# Altium footprint library SAMA5D27-SOM1-MFG-03.PcbLib: 21 footprints (part 1 of 2)
Each footprint in its own frame and in the unit in brackets; x right, y up, seen from the top. Pads: shape width x height; smd on the part's side, far side on the other; paste and mask are expansions set on the pad; w line width, h text height; cw(c..) or ccw(c..) is an arc to the next point about the centre after c.
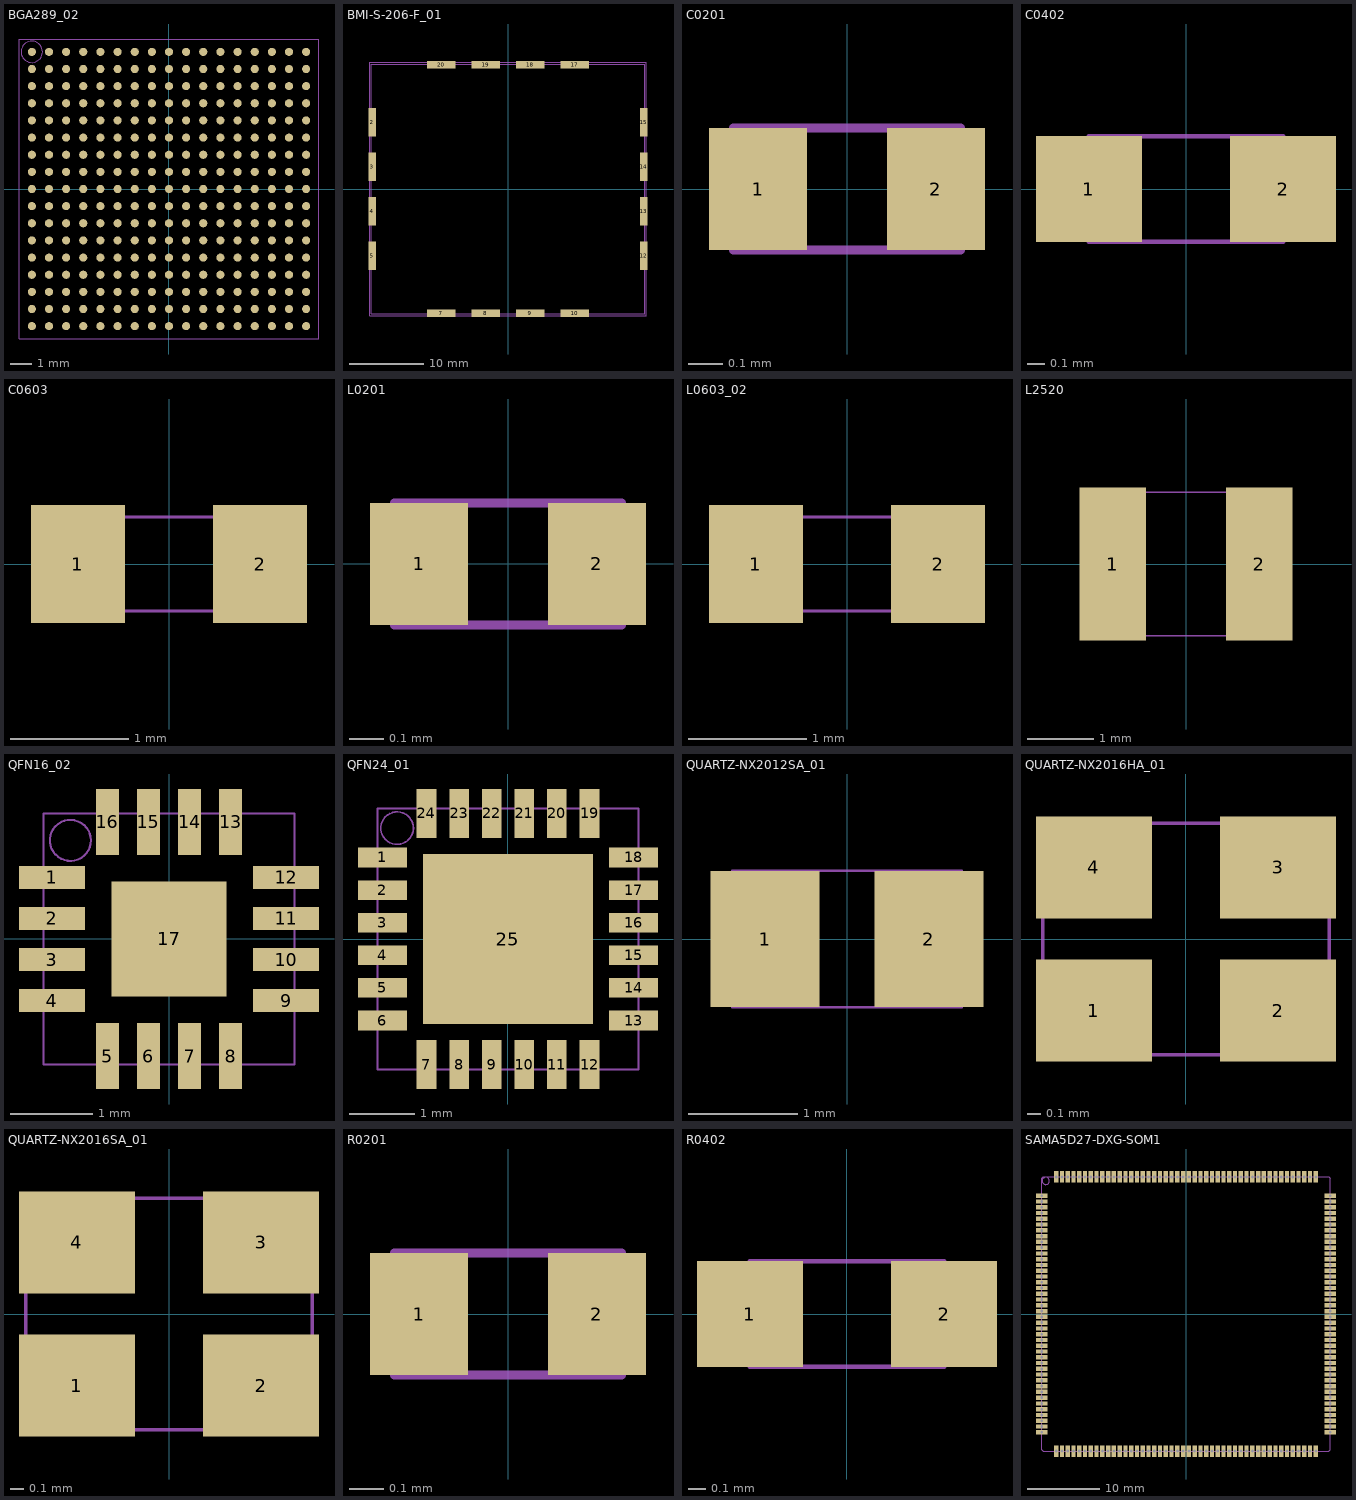
[diagram p0: the footprints below, top view; thin cyan lines are the x and y axes]

## BGA289_02 [mm] "BGA289_02"
pads (289):
  round 0.38 smd: A1(-6.4,6.4) A2(-5.6,6.4) A3(-4.8,6.4) A4(-4,6.4) A5(-3.2,6.4) A6(-2.4,6.4) A7(-1.6,6.4) A8(-0.8,6.4) A9(0,6.4) A10(0.8,6.4) A11(1.6,6.4) A12(2.4,6.4) A13(3.2,6.4) A14(4,6.4) A15(4.8,6.4) A16(5.6,6.4) A17(6.4,6.4) B1(-6.4,5.6) B2(-5.6,5.6) B3(-4.8,5.6) B4(-4,5.6) B5(-3.2,5.6) B6(-2.4,5.6) B7(-1.6,5.6) B8(-0.8,5.6) B9(0,5.6) B10(0.8,5.6) B11(1.6,5.6) B12(2.4,5.6) B13(3.2,5.6) B14(4,5.6) B15(4.8,5.6) B16(5.6,5.6) B17(6.4,5.6) C1(-6.4,4.8) C2(-5.6,4.8) C3(-4.8,4.8) C4(-4,4.8) C5(-3.2,4.8) C6(-2.4,4.8) C7(-1.6,4.8) C8(-0.8,4.8) C9(0,4.8) C10(0.8,4.8) C11(1.6,4.8) C12(2.4,4.8) C13(3.2,4.8) C14(4,4.8) C15(4.8,4.8) C16(5.6,4.8) C17(6.4,4.8) D1(-6.4,4) D2(-5.6,4) D3(-4.8,4) D4(-4,4) D5(-3.2,4) D6(-2.4,4) D7(-1.6,4) D8(-0.8,4) D9(0,4) D10(0.8,4) D11(1.6,4) D12(2.4,4) D13(3.2,4) D14(4,4) D15(4.8,4) D16(5.6,4) D17(6.4,4) E1(-6.4,3.2) E2(-5.6,3.2) E3(-4.8,3.2) E4(-4,3.2) E5(-3.2,3.2) E6(-2.4,3.2) E7(-1.6,3.2) E8(-0.8,3.2) E9(0,3.2) E10(0.8,3.2) E11(1.6,3.2) E12(2.4,3.2) E13(3.2,3.2) E14(4,3.2) E15(4.8,3.2) E16(5.6,3.2) E17(6.4,3.2) F1(-6.4,2.4) F2(-5.6,2.4) F3(-4.8,2.4) F4(-4,2.4) F5(-3.2,2.4) F6(-2.4,2.4) F7(-1.6,2.4) F8(-0.8,2.4) F9(0,2.4) F10(0.8,2.4) F11(1.6,2.4) F12(2.4,2.4) F13(3.2,2.4) F14(4,2.4) F15(4.8,2.4) F16(5.6,2.4) F17(6.4,2.4) G1(-6.4,1.6) G2(-5.6,1.6) G3(-4.8,1.6) G4(-4,1.6) G5(-3.2,1.6) G6(-2.4,1.6) G7(-1.6,1.6) G8(-0.8,1.6) G9(0,1.6) G10(0.8,1.6) G11(1.6,1.6) G12(2.4,1.6) G13(3.2,1.6) G14(4,1.6) G15(4.8,1.6) G16(5.6,1.6) G17(6.4,1.6) H1(-6.4,0.8) H2(-5.6,0.8) H3(-4.8,0.8) H4(-4,0.8) H5(-3.2,0.8) H6(-2.4,0.8) H7(-1.6,0.8) H8(-0.8,0.8) H9(0,0.8) H10(0.8,0.8) H11(1.6,0.8) H12(2.4,0.8) H13(3.2,0.8) H14(4,0.8) H15(4.8,0.8) H16(5.6,0.8) H17(6.4,0.8) J1(-6.4,0) J2(-5.6,0) J3(-4.8,0) J4(-4,0) J5(-3.2,0) J6(-2.4,0) J7(-1.6,0) J8(-0.8,0) J9(0,0) J10(0.8,0) J11(1.6,0) J12(2.4,0) J13(3.2,0) J14(4,0) J15(4.8,0) J16(5.6,0) J17(6.4,0) K1(-6.4,-0.8) K2(-5.6,-0.8) K3(-4.8,-0.8) K4(-4,-0.8) K5(-3.2,-0.8) K6(-2.4,-0.8) K7(-1.6,-0.8) K8(-0.8,-0.8) K9(0,-0.8) K10(0.8,-0.8) K11(1.6,-0.8) K12(2.4,-0.8) K13(3.2,-0.8) K14(4,-0.8) K15(4.8,-0.8) K16(5.6,-0.8) K17(6.4,-0.8) L1(-6.4,-1.6) L2(-5.6,-1.6) L3(-4.8,-1.6) L4(-4,-1.6) L5(-3.2,-1.6) L6(-2.4,-1.6) L7(-1.6,-1.6) L8(-0.8,-1.6) L9(0,-1.6) L10(0.8,-1.6) L11(1.6,-1.6) L12(2.4,-1.6) L13(3.2,-1.6) L14(4,-1.6) L15(4.8,-1.6) L16(5.6,-1.6) L17(6.4,-1.6) M1(-6.4,-2.4) M2(-5.6,-2.4) M3(-4.8,-2.4) M4(-4,-2.4) M5(-3.2,-2.4) M6(-2.4,-2.4) M7(-1.6,-2.4) M8(-0.8,-2.4) M9(0,-2.4) M10(0.8,-2.4) M11(1.6,-2.4) M12(2.4,-2.4) M13(3.2,-2.4) M14(4,-2.4) M15(4.8,-2.4) M16(5.6,-2.4) M17(6.4,-2.4) N1(-6.4,-3.2) N2(-5.6,-3.2) N3(-4.8,-3.2) N4(-4,-3.2) N5(-3.2,-3.2) N6(-2.4,-3.2) N7(-1.6,-3.2) N8(-0.8,-3.2) N9(0,-3.2) N10(0.8,-3.2) N11(1.6,-3.2) N12(2.4,-3.2) N13(3.2,-3.2) N14(4,-3.2) N15(4.8,-3.2) N16(5.6,-3.2) N17(6.4,-3.2) P1(-6.4,-4) P2(-5.6,-4) P3(-4.8,-4) P4(-4,-4) P5(-3.2,-4) P6(-2.4,-4) P7(-1.6,-4) P8(-0.8,-4) P9(0,-4) P10(0.8,-4) P11(1.6,-4) P12(2.4,-4) P13(3.2,-4) P14(4,-4) P15(4.8,-4) P16(5.6,-4) P17(6.4,-4) R1(-6.4,-4.8) R2(-5.6,-4.8) R3(-4.8,-4.8) R4(-4,-4.8) R5(-3.2,-4.8) R6(-2.4,-4.8) R7(-1.6,-4.8) R8(-0.8,-4.8) R9(0,-4.8) R10(0.8,-4.8) R11(1.6,-4.8) R12(2.4,-4.8) R13(3.2,-4.8) R14(4,-4.8) R15(4.8,-4.8) R16(5.6,-4.8) R17(6.4,-4.8) T1(-6.4,-5.6) T2(-5.6,-5.6) T3(-4.8,-5.6) T4(-4,-5.6) T5(-3.2,-5.6) T6(-2.4,-5.6) T7(-1.6,-5.6) T8(-0.8,-5.6) T9(0,-5.6) T10(0.8,-5.6) T11(1.6,-5.6) T12(2.4,-5.6) T13(3.2,-5.6) T14(4,-5.6) T15(4.8,-5.6) T16(5.6,-5.6) T17(6.4,-5.6) U1(-6.4,-6.4) U2(-5.6,-6.4) U3(-4.8,-6.4) U4(-4,-6.4) U5(-3.2,-6.4) U6(-2.4,-6.4) U7(-1.6,-6.4) U8(-0.8,-6.4) U9(0,-6.4) U10(0.8,-6.4) U11(1.6,-6.4) U12(2.4,-6.4) U13(3.2,-6.4) U14(4,-6.4) U15(4.8,-6.4) U16(5.6,-6.4) U17(6.4,-6.4)
Mechanical 16:
  circle w0.025: c-6.4,6.4 r0.5
  lines w0.025: -7,-7 -7,7 7,7 7,-7 -7,-7
Mechanical 29:
  text "A12" at -0.394,6.4 h0.64
  text "C10" at -1.994,4.8 h0.64
  text "C11" at -1.194,4.8 h0.64
  text "C12" at -0.394,4.8 h0.64
  text "C13" at 0.406,4.8 h0.64
  text "C14" at 1.206,4.8 h0.64
  text "C15" at 2.006,4.8 h0.64
  text "D10" at -1.994,4 h0.64
  text "D11" at -1.194,4 h0.64
  text "D12" at -0.394,4 h0.64
  text "D13" at 0.406,4 h0.64
  text "A13" at 0.406,6.4 h0.64
  text "D14" at 1.206,4 h0.64
  text "E13" at 0.406,3.2 h0.64
  text "F9" at -2.286,2.4 h0.64
  text "F10" at -1.994,2.4 h0.64
  text "F13" at 0.406,2.4 h0.64
  text "F14" at 1.206,2.4 h0.64
  text "G11" at -1.194,1.6 h0.64
  text "G13" at 0.406,1.6 h0.64
  text "G14" at 1.206,1.6 h0.64
  text "H11" at -1.194,0.8 h0.64
  text "A14" at 1.206,6.4 h0.64
  text "H13" at 0.406,0.8 h0.64
  text "H14" at 1.206,0.8 h0.64
  text "J12" at -0.394,0 h0.64
  text "J13" at 0.406,0 h0.64
  text "J14" at 1.206,0 h0.64
  text "K12" at -0.394,-0.8 h0.64
  text "K13" at 0.406,-0.8 h0.64
  text "K14" at 1.206,-0.8 h0.64
  text "L13" at 0.406,-1.6 h0.64
  text "R12" at -0.394,-4.8 h0.64
  text "A15" at 2.006,6.4 h0.64
  text "T9" at -2.286,-5.6 h0.64
  text "B11" at -1.194,5.6 h0.64
  text "B12" at -0.394,5.6 h0.64
  text "B13" at 0.406,5.6 h0.64
  text "B14" at 1.206,5.6 h0.64
  text "B15" at 2.006,5.6 h0.64
  text "R3" at -7.086,-4.8 h0.64
  text "R9" at -2.286,-4.8 h0.64
  text "P8" at -3.086,-4 h0.64
  text "R10" at -1.994,-4.8 h0.64
  text "P15" at 2.006,-4 h0.64
  text "N17" at 3.606,-3.2 h0.64
  text "P16" at 2.806,-4 h0.64
  text "C9" at -2.286,4.8 h0.64
  text "A7" at -3.886,6.4 h0.64
  text "B6" at -4.686,5.6 h0.64
  text "C5" at -5.486,4.8 h0.64
  text "M4" at -6.286,-2.4 h0.64
  text "A6" at -4.686,6.4 h0.64
  text "E4" at -6.286,3.2 h0.64
  text "B5" at -5.486,5.6 h0.64
  text "C4" at -6.286,4.8 h0.64
  text "A5" at -5.486,6.4 h0.64
  text "B4" at -6.286,5.6 h0.64
  text "A4" at -6.286,6.4 h0.64
  text "D3" at -7.086,4 h0.64
  text "C3" at -7.086,4.8 h0.64
  text "B3" at -7.086,5.6 h0.64
  text "E2" at -7.886,3.2 h0.64
  text "R7" at -3.886,-4.8 h0.64
  text "A3" at -7.086,6.4 h0.64
  text "G3" at -7.086,1.6 h0.64
  text "R5" at -5.486,-4.8 h0.64
  text "F4" at -6.286,2.4 h0.64
  text "K4" at -6.286,-0.8 h0.64
  text "J5" at -5.486,0 h0.64
  text "L9" at -2.286,-1.6 h0.64
  text "D2" at -7.886,4 h0.64
  text "M7" at -3.886,-2.4 h0.64
  text "G8" at -3.086,1.6 h0.64
  text "C2" at -7.886,4.8 h0.64
  text "M16" at 2.806,-2.4 h0.64
  text "L11" at -1.194,-1.6 h0.64
  text "M15" at 2.006,-2.4 h0.64
  text "N9" at -2.286,-3.2 h0.64
  text "M10" at -1.994,-2.4 h0.64
  text "N15" at 2.006,-3.2 h0.64
  text "G7" at -3.886,1.6 h0.64
  text "N10" at -1.994,-3.2 h0.64
  text "U9" at -2.286,-6.4 h0.64
  text "U2" at -7.886,-6.4 h0.64
  text "U1" at -8.686,-6.4 h0.64
  text "U6" at -4.686,-6.4 h0.64
  text "U7" at -3.886,-6.4 h0.64
  text "T7" at -3.886,-5.6 h0.64
  text "R2" at -7.886,-4.8 h0.64
  text "T2" at -7.886,-5.6 h0.64
  text "B16" at 2.806,5.6 h0.64
  text "C16" at 2.806,4.8 h0.64
  text "A16" at 2.806,6.4 h0.64
  text "E11" at -1.194,3.2 h0.64
  text "G12" at -0.394,1.6 h0.64
  text "H10" at -1.994,0.8 h0.64
  text "E8" at -3.086,3.2 h0.64
  text "E16" at 2.806,3.2 h0.64
  text "D16" at 2.806,4 h0.64
  text "G17" at 3.606,1.6 h0.64
  text "E15" at 2.006,3.2 h0.64
  text "F15" at 2.006,2.4 h0.64
  text "H15" at 2.006,0.8 h0.64
  text "G15" at 2.006,1.6 h0.64
  text "L16" at 2.806,-1.6 h0.64
  text "K15" at 2.006,-0.8 h0.64
  text "L15" at 2.006,-1.6 h0.64
  text "L14" at 1.206,-1.6 h0.64
  text "J17" at 3.606,0 h0.64
  text "J15" at 2.006,0 h0.64
  text "L10" at -1.994,-1.6 h0.64
  text "J8" at -3.086,0 h0.64
  text "R4" at -6.286,-4.8 h0.64
  text "T6" at -4.686,-5.6 h0.64
  text "U8" at -3.086,-6.4 h0.64
  text "A10" at -1.994,6.4 h0.64
  text "F11" at -1.194,2.4 h0.64
  text "J10" at -1.994,0 h0.64
  text "J4" at -6.286,0 h0.64
  text "A8" at -3.086,6.4 h0.64
  text "C6" at -4.686,4.8 h0.64
  text "E5" at -5.486,3.2 h0.64
  text "D5" at -5.486,4 h0.64
  text "N11" at -1.194,-3.2 h0.64
  text "L1" at -8.686,-1.6 h0.64
  text "K8" at -3.086,-0.8 h0.64
  text "J3" at -7.086,0 h0.64
  text "K5" at -5.486,-0.8 h0.64
  text "N1" at -8.686,-3.2 h0.64
  text "K9" at -2.286,-0.8 h0.64
  text "K2" at -7.886,-0.8 h0.64
  text "K1" at -8.686,-0.8 h0.64
  text "J7" at -3.886,0 h0.64
  text "M8" at -3.086,-2.4 h0.64
  text "H16" at 2.806,0.8 h0.64
  text "G16" at 2.806,1.6 h0.64
  text "F16" at 2.806,2.4 h0.64
  text "E17" at 3.606,3.2 h0.64
  text "F17" at 3.606,2.4 h0.64
  text "E14" at 1.206,3.2 h0.64
  text "D15" at 2.006,4 h0.64
  text "C17" at 3.606,4.8 h0.64
  text "B17" at 3.606,5.6 h0.64
  text "A17" at 3.606,6.4 h0.64
  text "H12" at -0.394,0.8 h0.64
  text "G10" at -1.994,1.6 h0.64
  text "F8" at -3.086,2.4 h0.64
  text "E10" at -1.994,3.2 h0.64
  text "F12" at -0.394,2.4 h0.64
  text "E12" at -0.394,3.2 h0.64
  text "H5" at -5.486,0.8 h0.64
  text "F2" at -7.886,2.4 h0.64
  text "E3" at -7.086,3.2 h0.64
  text "D6" at -4.686,4 h0.64
  text "M14" at 1.206,-2.4 h0.64
  text "K17" at 3.606,-0.8 h0.64
  text "K16" at 2.806,-0.8 h0.64
  text "J16" at 2.806,0 h0.64
  text "L17" at 3.606,-1.6 h0.64
  text "H17" at 3.606,0.8 h0.64
  text "R8" at -3.086,-4.8 h0.64
  text "P11" at -1.194,-4 h0.64
  text "M12" at -0.394,-2.4 h0.64
  text "K10" at -1.994,-0.8 h0.64
  text "J9" at -2.286,0 h0.64
  text "K11" at -1.194,-0.8 h0.64
  text "K7" at -3.886,-0.8 h0.64
  text "J11" at -1.194,0 h0.64
  text "J6" at -4.686,0 h0.64
  text "K6" at -4.686,-0.8 h0.64
  text "P5" at -5.486,-4 h0.64
  text "M1" at -8.686,-2.4 h0.64
  text "R6" at -4.686,-4.8 h0.64
  text "T5" at -5.486,-5.6 h0.64
  text "T4" at -6.286,-5.6 h0.64
  text "T3" at -7.086,-5.6 h0.64
  text "U4" at -6.286,-6.4 h0.64
  text "E1" at -8.686,3.2 h0.64
  text "G1" at -8.686,1.6 h0.64
  text "B2" at -7.886,5.6 h0.64
  text "H9" at -2.286,0.8 h0.64
  text "H8" at -3.086,0.8 h0.64
  text "H4" at -6.286,0.8 h0.64
  text "A2" at -7.886,6.4 h0.64
  text "G4" at -6.286,1.6 h0.64
  text "F1" at -8.686,2.4 h0.64
  text "G5" at -5.486,1.6 h0.64
  text "A9" at -2.286,6.4 h0.64
  text "B1" at -8.686,5.6 h0.64
  text "A1" at -8.686,6.4 h0.64
  text "G2" at -7.886,1.6 h0.64
  text "G6" at -4.686,1.6 h0.64
  text "N14" at 1.206,-3.2 h0.64
  text "C1" at -8.686,4.8 h0.64
  text "A11" at -1.194,6.4 h0.64
  text "G9" at -2.286,1.6 h0.64
  text "D1" at -8.686,4 h0.64
  text "E7" at -3.886,3.2 h0.64
  text "N2" at -7.886,-3.2 h0.64
  text "B8" at -3.086,5.6 h0.64
  text "R17" at 3.606,-4.8 h0.64
  text "H6" at -4.686,0.8 h0.64
  text "P17" at 3.606,-4 h0.64
  text "J2" at -7.886,0 h0.64
  text "H3" at -7.086,0.8 h0.64
  text "E6" at -4.686,3.2 h0.64
  text "K3" at -7.086,-0.8 h0.64
  text "C8" at -3.086,4.8 h0.64
  text "T14" at 1.206,-5.6 h0.64
  text "L5" at -5.486,-1.6 h0.64
  text "L4" at -6.286,-1.6 h0.64
  text "P14" at 1.206,-4 h0.64
  text "T1" at -8.686,-5.6 h0.64
  text "R16" at 2.806,-4.8 h0.64
  text "D8" at -3.086,4 h0.64
  text "J1" at -8.686,0 h0.64
  text "F6" at -4.686,2.4 h0.64
  text "H1" at -8.686,0.8 h0.64
  text "C7" at -3.886,4.8 h0.64
  text "H7" at -3.886,0.8 h0.64
  text "P13" at 0.406,-4 h0.64
  text "B10" at -1.994,5.6 h0.64
  text "P10" at -1.994,-4 h0.64
  text "F5" at -5.486,2.4 h0.64
  text "T17" at 3.606,-5.6 h0.64
  text "P3" at -7.086,-4 h0.64
  text "B9" at -2.286,5.6 h0.64
  text "U5" at -5.486,-6.4 h0.64
  text "F7" at -3.886,2.4 h0.64
  text "T15" at 2.006,-5.6 h0.64
  text "T16" at 2.806,-5.6 h0.64
  text "L6" at -4.686,-1.6 h0.64
  text "R13" at 0.406,-4.8 h0.64
  text "R14" at 1.206,-4.8 h0.64
  text "P1" at -8.686,-4 h0.64
  text "N16" at 2.806,-3.2 h0.64
  text "R15" at 2.006,-4.8 h0.64
  text "B7" at -3.886,5.6 h0.64
  text "P9" at -2.286,-4 h0.64
  text "M11" at -1.194,-2.4 h0.64
  text "M13" at 0.406,-2.4 h0.64
  text "L12" at -0.394,-1.6 h0.64
  text "E9" at -2.286,3.2 h0.64
  text "D7" at -3.886,4 h0.64
  text "H2" at -7.886,0.8 h0.64
  text "U3" at -7.086,-6.4 h0.64
  text "P7" at -3.886,-4 h0.64
  text "T10" at -1.994,-5.6 h0.64
  text "N13" at 0.406,-3.2 h0.64
  text "F3" at -7.086,2.4 h0.64
  text "D4" at -6.286,4 h0.64
  text "U10" at -1.994,-6.4 h0.64
  text "N12" at -0.394,-3.2 h0.64
  text "P12" at -0.394,-4 h0.64
  text "D9" at -2.286,4 h0.64
  text "T8" at -3.086,-5.6 h0.64
  text "M17" at 3.606,-2.4 h0.64
  text "L7" at -3.886,-1.6 h0.64
  text "L3" at -7.086,-1.6 h0.64
  text "M2" at -7.886,-2.4 h0.64
  text "M9" at -2.286,-2.4 h0.64
  text "L2" at -7.886,-1.6 h0.64
  text "L8" at -3.086,-1.6 h0.64
  text "R1" at -8.686,-4.8 h0.64
  text "M3" at -7.086,-2.4 h0.64
  text "P4" at -6.286,-4 h0.64
  text "N4" at -6.286,-3.2 h0.64
  text "M5" at -5.486,-2.4 h0.64
  text "N5" at -5.486,-3.2 h0.64
  text "N3" at -7.086,-3.2 h0.64
  text "N6" at -4.686,-3.2 h0.64
  text "P2" at -7.886,-4 h0.64
  text "D17" at 3.606,4 h0.64
  text "N8" at -3.086,-3.2 h0.64
  text "P6" at -4.686,-4 h0.64
  text "U11" at -1.194,-6.4 h0.64
  text "M6" at -4.686,-2.4 h0.64
  text "T11" at -1.194,-5.6 h0.64
  text "U14" at 1.206,-6.4 h0.64
  text "T13" at 0.406,-5.6 h0.64
  text "U15" at 2.006,-6.4 h0.64
  text "U16" at 2.806,-6.4 h0.64
  text "T12" at -0.394,-5.6 h0.64
  text "U12" at -0.394,-6.4 h0.64
  text "N7" at -3.886,-3.2 h0.64
  text "U13" at 0.406,-6.4 h0.64
  text "U17" at 3.606,-6.4 h0.64
  text "R11" at -1.194,-4.8 h0.64
Mechanical 30:
  text "1" at -6.55,7.1 h0.5
  text "A" at -7.5,6.2 h0.5

## BMI-S-206-F_01 [mm] "BMI-S-206-F_01"
pads (20):
  oct 0.025x0.025 smd: 1(-18.315,16.74) 6(-18.315,-16.74) 11(18.315,-16.74) 16(18.315,16.74)
  rect 1x3.8 smd: 2(-18.315,9) 3(-18.315,3) 4(-18.315,-3) 5(-18.315,-9) 12(18.315,-9) 13(18.315,-3) 14(18.315,3) 15(18.315,9)
  rect 3.8x1 smd: 7(-8.995,-16.74) 8(-2.995,-16.74) 9(3.005,-16.74) 10(9.005,-16.74) 17(9.005,16.74) 18(3.005,16.74) 19(-2.995,16.74) 20(-8.995,16.74)
Mechanical 16:
  lines w0.025: -18.645,-17.07 18.645,-17.07 18.645,17.07 -18.645,17.07 -18.645,-17.07 ; -18.415,-16.84 18.415,-16.84 18.415,16.84 -18.415,16.84 -18.415,-16.84
Mechanical 29:
  text "6" at -20.54,-15.193 h0.64
  text "7" at -9.47,-18.507 h0.64
  text "8" at -3.32,-18.307 h0.64
  text "9" at 2.53,-18.307 h0.64
  text "10" at 7.922,-18.257 h0.64
  text "11" at 15.529,-18.098 h0.64
  text "5" at -20.59,-9.033 h0.64
  text "12" at 18.817,-9.067 h0.64
  text "4" at -20.59,-3.033 h0.64
  text "13" at 18.817,-3.067 h0.64
  text "3" at -20.59,2.967 h0.64
  text "14" at 18.817,2.933 h0.64
  text "2" at -20.59,8.967 h0.64
  text "15" at 18.817,8.933 h0.64
  text "1" at -20.141,15.087 h0.64
  text "16" at 18.711,15.913 h0.64
  text "20" at -9.228,17.522 h0.64
  text "19" at -3.078,17.722 h0.64
  text "18" at 2.772,17.722 h0.64
  text "17" at 8.672,17.772 h0.64

## C0201 [mm] "C0201"
pads (2):
  rect 0.28x0.35 smd: 1(-0.255,0) 2(0.255,0)
Mechanical 16:
  lines w0.025: -0.325,-0.175 -0.325,0.175 0.325,0.175 0.325,-0.175 -0.325,-0.175
Mechanical 29:
  text "2" at 0.55,-1.1 h0.64
  text "1" at -0.6,-0.592 h0.64

## C0402 [mm] "C0402"
pads (2):
  rect 0.6x0.6 smd: 1(-0.55,0) 2(0.55,0)
Mechanical 16:
  lines w0.025: -0.55,-0.3 -0.55,0.3 0.55,0.3 0.55,-0.3 -0.55,-0.3
Mechanical 29:
  text "2" at 0.4,-1.2 h0.64
  text "1" at 0.108,-1.2 h0.64

## C0603 [mm] "C0603"
pads (2):
  rect 0.8x1 smd: 1(-0.775,0) 2(0.775,0)
Mechanical 16:
  lines w0.025: -1.05,-0.4 -1.05,0.4 1.05,0.4 1.05,-0.4 -1.05,-0.4
Mechanical 29:
  text "2" at 1.526,-0.127 h0.64
  text "1" at -1.145,-0.127 h0.64

## L0201 [mm] "L0201"
pads (2):
  rect 0.28x0.35 smd: 1(-0.255,0) 2(0.255,0)
Mechanical 16:
  lines w0.025: -0.325,-0.175 0.325,-0.175 0.325,0.175 -0.325,0.175 -0.325,-0.175
Mechanical 29:
  text "2" at 0.55,-1.1 h0.64
  text "1" at -1.108,-1.1 h0.64

## L0603_02 [mm] "L0603_02"
pads (2):
  rect 0.8x1 smd: 1(-0.775,0) 2(0.775,0)
Mechanical 16:
  lines w0.025: -1.05,-0.4 -1.05,0.4 1.05,0.4 1.05,-0.4 -1.05,-0.4
Mechanical 29:
  text "2" at 1.526,-0.127 h0.64
  text "1" at -1.145,-0.127 h0.64

## L2520 [mm] "L2520"
pads (2):
  rect 1x2.3 smd: 1(-1.1,0) 2(1.1,0)
Mechanical 16:
  lines w0.025: -1.325,-1.075 1.325,-1.075 1.325,1.075 -1.325,1.075 -1.325,-1.075
Mechanical 29:
  text "1" at -0.936,-3.721 h0.5
  text "2" at 1.253,-3.721 h0.5

## QFN16_02 [mm] "QFN16_02"
pads (17):
  rect 0.8x0.28 smd: 1(-1.425,0.75) 2(-1.425,0.25) 3(-1.425,-0.25) 4(-1.425,-0.75) 9(1.425,-0.75) 10(1.425,-0.25) 11(1.425,0.25) 12(1.425,0.75)
  rect 0.28x0.8 smd: 5(-0.75,-1.425) 6(-0.25,-1.425) 7(0.25,-1.425) 8(0.75,-1.425) 13(0.75,1.425) 14(0.25,1.425) 15(-0.25,1.425) 16(-0.75,1.425)
  rect 1.4x1.4 smd: 17(0,0)
Mechanical 16:
  circle w0.025: c-1.2,1.2 r0.25
  lines w0.025: -1.525,-1.525 -1.525,1.525 1.525,1.525 1.525,-1.525 -1.525,-1.525
Mechanical 29:
  text "10" at 4.224,-0.467 h0.64
  text "9" at 3.436,-1.268 h0.64
  text "6" at 0.411,-2.743 h0.64
  text "7" at 0.911,-2.743 h0.64
  text "4" at -2.434,-1.103 h0.64
  text "3" at -2.384,-0.453 h0.64
  text "17" at 1.449,-0.367 h0.64
  text "1" at -2.334,0.547 h0.64
  text "14" at 0.998,2.392 h0.64
  text "2" at -2.334,0.097 h0.64
  text "13" at 1.749,2.392 h0.64
  text "11" at 4.224,0.332 h0.64
  text "12" at 4.224,1.082 h0.64
  text "5" at -0.139,-2.743 h0.64
  text "8" at 1.461,-2.743 h0.64
  text "16" at -0.651,2.392 h0.64
  text "15" at 0.149,2.392 h0.64

## QFN24_01 [mm] "QFN24_01"
pads (25):
  rect 0.75x0.3 smd: 1(-1.925,1.25) 2(-1.925,0.75) 3(-1.925,0.25) 4(-1.925,-0.25) 5(-1.925,-0.75) 6(-1.925,-1.25) 13(1.925,-1.25) 14(1.925,-0.75) 15(1.925,-0.25) 16(1.925,0.25) 17(1.925,0.75) 18(1.925,1.25)
  rect 0.3x0.75 smd: 7(-1.25,-1.925) 8(-0.75,-1.925) 9(-0.25,-1.925) 10(0.25,-1.925) 11(0.75,-1.925) 12(1.25,-1.925) 19(1.25,1.925) 20(0.75,1.925) 21(0.25,1.925) 22(-0.25,1.925) 23(-0.75,1.925) 24(-1.25,1.925)
  rect 2.6x2.6 smd: 25(0,0)
Mechanical 16:
  circle w0.025: c-1.7,1.7 r0.25
  lines w0.025: -2,-2 2,-2 2,2 -2,2 -2,-2
Mechanical 29:
  text "23" at -1.766,1.925 h0.64
  text "24" at -2.266,1.925 h0.64
  text "7" at -1.758,-1.925 h0.64
  text "8" at -1.258,-1.925 h0.64
  text "9" at -0.758,-1.925 h0.64
  text "1" at -2.179,1.123 h0.64
  text "25" at -0.516,-0.25 h0.64
  text "22" at -1.266,1.925 h0.64
  text "18" at 0.655,1.631 h0.64
  text "10" at -0.766,-1.925 h0.64
  text "11" at -0.266,-1.925 h0.64
  text "15" at 0.655,0.131 h0.64
  text "17" at 0.655,1.131 h0.64
  text "13" at 0.655,-1.123 h0.64
  text "12" at 0.234,-1.925 h0.64
  text "19" at 0.234,1.925 h0.64
  text "20" at -0.266,1.925 h0.64
  text "21" at -0.766,1.925 h0.64
  text "2" at -2.179,0.369 h0.64
  text "16" at 0.655,0.631 h0.64
  text "14" at 0.655,-0.369 h0.64
  text "3" at -2.179,-0.131 h0.64
  text "4" at -2.179,-0.631 h0.64
  text "5" at -2.179,-1.131 h0.64
  text "6" at -2.179,-1.631 h0.64

## QUARTZ-NX2012SA_01 [mm] "QUARTZ-NX2012SA_01"
pads (2):
  rect 1x1.25 smd: 1(-0.75,0) 2(0.75,0)
Mechanical 16:
  lines w0.025: -1.05,-0.625 -1.05,0.625 1.05,0.625 1.05,-0.625 -1.05,-0.625
Mechanical 29:
  text "1" at -0.75,0.24 h0.6
  text "2" at 0.75,0.24 h0.6

## QUARTZ-NX2016HA_01 [mm] "QUARTZ-NX2016HA_01"
pads (4):
  rect 0.85x0.75 smd: 1(-0.675,-0.525) 2(0.675,-0.525) 3(0.675,0.525) 4(-0.675,0.525)
Mechanical 16:
  circle w0.025: c-0.75,-0.55 r0.25
  lines w0.025: -1.05,-0.85 -1.05,0.85 1.05,0.85 1.05,-0.85 -1.05,-0.85
Mechanical 29:
  text "2" at 2.311,-0.868 h0.64
  text "4" at -0.889,0.182 h0.64
  text "1" at -0.839,-0.918 h0.64
  text "3" at 2.311,0.232 h0.64

## QUARTZ-NX2016SA_01 [mm] "QUARTZ-NX2016SA_01"
pads (4):
  rect 0.85x0.75 smd: 1(-0.675,-0.525) 2(0.675,-0.525) 3(0.675,0.525) 4(-0.675,0.525)
Mechanical 16:
  circle w0.025: c-0.75,-0.55 r0.25
  lines w0.025: -1.05,-0.85 -1.05,0.85 1.05,0.85 1.05,-0.85 -1.05,-0.85
Mechanical 29:
  text "1" at -0.839,-0.917 h0.64
  text "3" at 2.311,0.233 h0.64
  text "2" at 2.311,-0.867 h0.64
  text "4" at -0.889,0.182 h0.64

## R0201 [mm] "R0201"
pads (2):
  rect 0.28x0.35 smd: 1(-0.255,0) 2(0.255,0)
Mechanical 16:
  lines w0.025: -0.325,-0.175 -0.325,0.175 0.325,0.175 0.325,-0.175 -0.325,-0.175
Mechanical 29:
  text "2" at 0.55,-1.1 h0.64
  text "1" at -0.6,-1.608 h0.64

## R0402 [mm] "R0402"
pads (2):
  rect 0.6x0.6 smd: 1(-0.55,0) 2(0.55,0)
Mechanical 16:
  lines w0.025: -0.55,-0.3 -0.55,0.3 0.55,0.3 0.55,-0.3 -0.55,-0.3
Mechanical 29:
  text "1" at -0.285,-1.016 h0.64
  text "2" at 0.412,-1.524 h0.64

## SAMA5D27-DXG-SOM1 [mm] "SAMA5D27-DXG-SOM1"
pads (176):
  rect 1.6x0.6 hole 0.4: 1(-20,16.4) 2(-20,15.6) 3(-20,14.8) 4(-20,14) 5(-20,13.2) 6(-20,12.4) 7(-20,11.6) 8(-20,10.8) 9(-20,10) 10(-20,9.2) 11(-20,8.4) 12(-20,7.6) 13(-20,6.8) 14(-20,6) 15(-20,5.2) 16(-20,4.4) 17(-20,3.6) 18(-20,2.8) 19(-20,2) 20(-20,1.2) 21(-20,0.4) 22(-20,-0.4) 23(-20,-1.2) 24(-20,-2) 25(-20,-2.8) 26(-20,-3.6) 27(-20,-4.4) 28(-20,-5.2) 29(-20,-6) 30(-20,-6.8) 31(-20,-7.6) 32(-20,-8.4) 33(-20,-9.2) 34(-20,-10) 35(-20,-10.8) 36(-20,-11.6) 37(-20,-12.4) 38(-20,-13.2) 39(-20,-14) 40(-20,-14.8) 41(-20,-15.6) 42(-20,-16.4) 89(20,-16.4) 90(20,-15.6) 91(20,-14.8) 92(20,-14) 93(20,-13.2) 94(20,-12.4) 95(20,-11.6) 96(20,-10.8) 97(20,-10) 98(20,-9.2) 99(20,-8.4) 100(20,-7.6) 101(20,-6.8) 102(20,-6) 103(20,-5.2) 104(20,-4.4) 105(20,-3.6) 106(20,-2.8) 107(20,-2) 108(20,-1.2) 109(20,-0.4) 110(20,0.4) 111(20,1.2) 112(20,2) 113(20,2.8) 114(20,3.6) 115(20,4.4) 116(20,5.2) 117(20,6) 118(20,6.8) 119(20,7.6) 120(20,8.4) 121(20,9.2) 122(20,10) 123(20,10.8) 124(20,11.6) 125(20,12.4) 126(20,13.2) 127(20,14) 128(20,14.8) 129(20,15.6) 130(20,16.4)
  rect 0.6x1.6 hole 0.4: 43(-18,-19) 44(-17.2,-19) 45(-16.4,-19) 46(-15.6,-19) 47(-14.8,-19) 48(-14,-19) 49(-13.2,-19) 50(-12.4,-19) 51(-11.6,-19) 52(-10.8,-19) 53(-10,-19) 54(-9.2,-19) 55(-8.4,-19) 56(-7.6,-19) 57(-6.8,-19) 58(-6,-19) 59(-5.2,-19) 60(-4.4,-19) 61(-3.6,-19) 62(-2.8,-19) 63(-2,-19) 64(-1.2,-19) 65(-0.4,-19) 66(0.4,-19) 67(1.2,-19) 68(2,-19) 69(2.8,-19) 70(3.6,-19) 71(4.4,-19) 72(5.2,-19) 73(6,-19) 74(6.8,-19) 75(7.6,-19) 76(8.4,-19) 77(9.2,-19) 78(10,-19) 79(10.8,-19) 80(11.6,-19) 81(12.4,-19) 82(13.2,-19) 83(14,-19) 84(14.8,-19) 85(15.6,-19) 86(16.4,-19) 87(17.2,-19) 88(18,-19) 131(18,19) 132(17.2,19) 133(16.4,19) 134(15.6,19) 135(14.8,19) 136(14,19) 137(13.2,19) 138(12.4,19) 139(11.6,19) 140(10.8,19) 141(10,19) 142(9.2,19) 143(8.4,19) 144(7.6,19) 145(6.8,19) 146(6,19) 147(5.2,19) 148(4.4,19) 149(3.6,19) 150(2.8,19) 151(2,19) 152(1.2,19) 153(0.4,19) 154(-0.4,19) 155(-1.2,19) 156(-2,19) 157(-2.8,19) 158(-3.6,19) 159(-4.4,19) 160(-5.2,19) 161(-6,19) 162(-6.8,19) 163(-7.6,19) 164(-8.4,19) 165(-9.2,19) 166(-10,19) 167(-10.8,19) 168(-11.6,19) 169(-12.4,19) 170(-13.2,19) 171(-14,19) 172(-14.8,19) 173(-15.6,19) 174(-16.4,19) 175(-17.2,19) 176(-18,19)
Mechanical 16:
  circle w0.025: c-19.45,18.45 r0.5
  lines w0.025: -20,-18.8 -20,18.8 -19.8,19 19.8,19 20,18.8 20,-18.8 19.8,-19 -19.8,-19 -20,-18.8
Mechanical 29:
  text "78" at 8.984,-20.27 h0.64
  text "77" at 8.184,-20.27 h0.64
  text "82" at 12.184,-20.27 h0.64
  text "87" at 16.184,-20.27 h0.64
  text "92" at 17.714,-14 h0.64
  text "91" at 17.714,-14.8 h0.64
  text "113" at 17.206,2.8 h0.64
  text "148" at 2.876,17.73 h0.64
  text "151" at 0.476,17.73 h0.64
  text "155" at -2.724,17.73 h0.64
  text "150" at 1.276,17.73 h0.64
  text "162" at -8.324,17.73 h0.64
  text "154" at -1.924,17.73 h0.64
  text "157" at -4.324,17.73 h0.64
  text "152" at -0.324,17.73 h0.64
  text "158" at -5.124,17.73 h0.64
  text "156" at -3.524,17.73 h0.64
  text "164" at -9.924,17.73 h0.64
  text "161" at -7.524,17.73 h0.64
  text "160" at -6.724,17.73 h0.64
  text "168" at -13.124,17.73 h0.64
  text "159" at -5.924,17.73 h0.64
  text "169" at -13.924,17.73 h0.64
  text "163" at -9.124,17.73 h0.64
  text "167" at -12.324,17.73 h0.64
  text "144" at 6.076,17.73 h0.64
  text "165" at -10.724,17.73 h0.64
  text "137" at 11.676,17.73 h0.64
  text "140" at 9.276,17.73 h0.64
  text "139" at 10.076,17.73 h0.64
  text "146" at 4.476,17.73 h0.64
  text "142" at 7.676,17.73 h0.64
  text "136" at 12.476,17.73 h0.64
  text "143" at 6.876,17.73 h0.64
  text "145" at 5.276,17.73 h0.64
  text "133" at 14.876,17.73 h0.64
  text "41" at -22.286,-15.6 h0.64
  text "40" at -22.286,-14.8 h0.64
  text "128" at 17.206,14.8 h0.64
  text "132" at 15.676,17.73 h0.64
  text "38" at -22.286,-13.2 h0.64
  text "135" at 13.276,17.73 h0.64
  text "37" at -22.286,-12.4 h0.64
  text "134" at 14.076,17.73 h0.64
  text "16" at -22.286,4.4 h0.64
  text "17" at -22.286,3.6 h0.64
  text "141" at 8.476,17.73 h0.64
  text "127" at 17.206,14 h0.64
  text "1" at -21.778,16.4 h0.64
  text "10" at -22.286,9.2 h0.64
  text "18" at -22.286,2.8 h0.64
  text "26" at -22.286,-3.6 h0.64
  text "31" at -22.286,-7.6 h0.64
  text "39" at -22.286,-14 h0.64
  text "42" at -22.286,-16.4 h0.64
  text "43" at -19.016,-20.27 h0.64
  text "50" at -13.416,-20.27 h0.64
  text "56" at -8.616,-20.27 h0.64
  text "62" at -3.816,-20.27 h0.64
  text "66" at -0.616,-20.27 h0.64
  text "69" at 1.784,-20.27 h0.64
  text "72" at 4.184,-20.27 h0.64
  text "75" at 6.584,-20.27 h0.64
  text "88" at 16.984,-20.27 h0.64
  text "89" at 17.714,-16.4 h0.64
  text "98" at 17.714,-9.2 h0.64
  text "107" at 17.206,-2 h0.64
  text "130" at 17.206,16.4 h0.64
  text "131" at 16.476,17.73 h0.64
  text "149" at 2.076,17.73 h0.64
  text "166" at -11.524,17.73 h0.64
  text "171" at -15.524,17.73 h0.64
  text "176" at -19.524,17.73 h0.64
  text "7" at -21.778,11.6 h0.64
  text "13" at -22.286,6.8 h0.64
  text "2" at -21.778,15.6 h0.64
  text "170" at -14.724,17.73 h0.64
  text "173" at -17.124,17.73 h0.64
  text "14" at -22.286,6 h0.64
  text "175" at -18.724,17.73 h0.64
  text "9" at -21.778,10 h0.64
  text "126" at 17.206,13.2 h0.64
  text "11" at -22.286,8.4 h0.64
  text "8" at -21.778,10.8 h0.64
  text "4" at -21.778,14 h0.64
  text "3" at -21.778,14.8 h0.64
  text "12" at -22.286,7.6 h0.64
  text "174" at -17.924,17.73 h0.64
  text "108" at 17.206,-1.2 h0.64
  text "5" at -21.778,13.2 h0.64
  text "116" at 17.206,5.2 h0.64
  text "172" at -16.324,17.73 h0.64
  text "6" at -21.778,12.4 h0.64
  text "121" at 17.206,9.2 h0.64
  text "32" at -22.286,-8.4 h0.64
  text "123" at 17.206,10.8 h0.64
  text "99" at 17.714,-8.4 h0.64
  text "25" at -22.286,-2.8 h0.64
  text "100" at 17.206,-7.6 h0.64
  text "22" at -22.286,-0.4 h0.64
  text "15" at -22.286,5.2 h0.64
  text "120" at 17.206,8.4 h0.64
  text "28" at -22.286,-5.2 h0.64
  text "122" at 17.206,10 h0.64
  text "102" at 17.206,-6 h0.64
  text "110" at 17.206,0.4 h0.64
  text "29" at -22.286,-6 h0.64
  text "96" at 17.714,-10.8 h0.64
  text "30" at -22.286,-6.8 h0.64
  text "97" at 17.714,-10 h0.64
  text "23" at -22.286,-1.2 h0.64
  text "24" at -22.286,-2 h0.64
  text "117" at 17.206,6 h0.64
  text "21" at -22.286,0.4 h0.64
  text "124" at 17.206,11.6 h0.64
  text "27" at -22.286,-4.4 h0.64
  text "93" at 17.714,-13.2 h0.64
  text "114" at 17.206,3.6 h0.64
  text "103" at 17.206,-5.2 h0.64
  text "119" at 17.206,7.6 h0.64
  text "106" at 17.206,-2.8 h0.64
  text "118" at 17.206,6.8 h0.64
  text "55" at -9.416,-20.27 h0.64
  text "115" at 17.206,4.4 h0.64
  text "19" at -22.286,2 h0.64
  text "101" at 17.206,-6.8 h0.64
  text "105" at 17.206,-3.6 h0.64
  text "94" at 17.714,-12.4 h0.64
  text "95" at 17.714,-11.6 h0.64
  text "109" at 17.206,-0.4 h0.64
  text "90" at 17.714,-15.6 h0.64
  text "125" at 17.206,12.4 h0.64
  text "104" at 17.206,-4.4 h0.64
  text "36" at -22.286,-11.6 h0.64
  text "112" at 17.206,2 h0.64
  text "129" at 17.206,15.6 h0.64
  text "138" at 10.876,17.73 h0.64
  text "153" at -1.124,17.73 h0.64
  text "60" at -5.416,-20.27 h0.64
  text "67" at 0.184,-20.27 h0.64
  text "68" at 0.984,-20.27 h0.64
  text "35" at -22.286,-10.8 h0.64
  text "61" at -4.616,-20.27 h0.64
  text "111" at 17.206,1.2 h0.64
  text "53" at -11.016,-20.27 h0.64
  text "51" at -12.616,-20.27 h0.64
  text "52" at -11.816,-20.27 h0.64
  text "54" at -10.216,-20.27 h0.64
  text "57" at -7.816,-20.27 h0.64
  text "58" at -7.016,-20.27 h0.64
  text "49" at -14.216,-20.27 h0.64
  text "34" at -22.286,-10 h0.64
  text "33" at -22.286,-9.2 h0.64
  text "48" at -15.016,-20.27 h0.64
  text "47" at -15.816,-20.27 h0.64
  text "46" at -16.616,-20.27 h0.64
  text "59" at -6.216,-20.27 h0.64
  text "45" at -17.416,-20.27 h0.64
  text "44" at -18.216,-20.27 h0.64
  text "65" at -1.416,-20.27 h0.64
  text "63" at -3.016,-20.27 h0.64
  text "64" at -2.216,-20.27 h0.64
  text "71" at 3.384,-20.27 h0.64
  text "70" at 2.584,-20.27 h0.64
  text "83" at 12.984,-20.27 h0.64
  text "81" at 11.384,-20.27 h0.64
  text "84" at 13.784,-20.27 h0.64
  text "85" at 14.584,-20.27 h0.64
  text "74" at 5.784,-20.27 h0.64
  text "73" at 4.984,-20.27 h0.64
  text "76" at 7.384,-20.27 h0.64
  text "80" at 10.584,-20.27 h0.64
  text "86" at 15.384,-20.27 h0.64
  text "79" at 9.784,-20.27 h0.64
  text "20" at -22.286,1.2 h0.64
  text "147" at 3.676,17.73 h0.64